# Altium footprint library Cuon Cam.PcbLib: 24 footprints (part 1 of 2)
Each footprint in its own frame and in the unit in brackets; x right, y up, seen from the top. Pads: shape width x height; smd on the part's side, far side on the other; paste and mask are expansions set on the pad; w line width, h text height; cw(c..) or ccw(c..) is an arc to the next point about the centre after c.
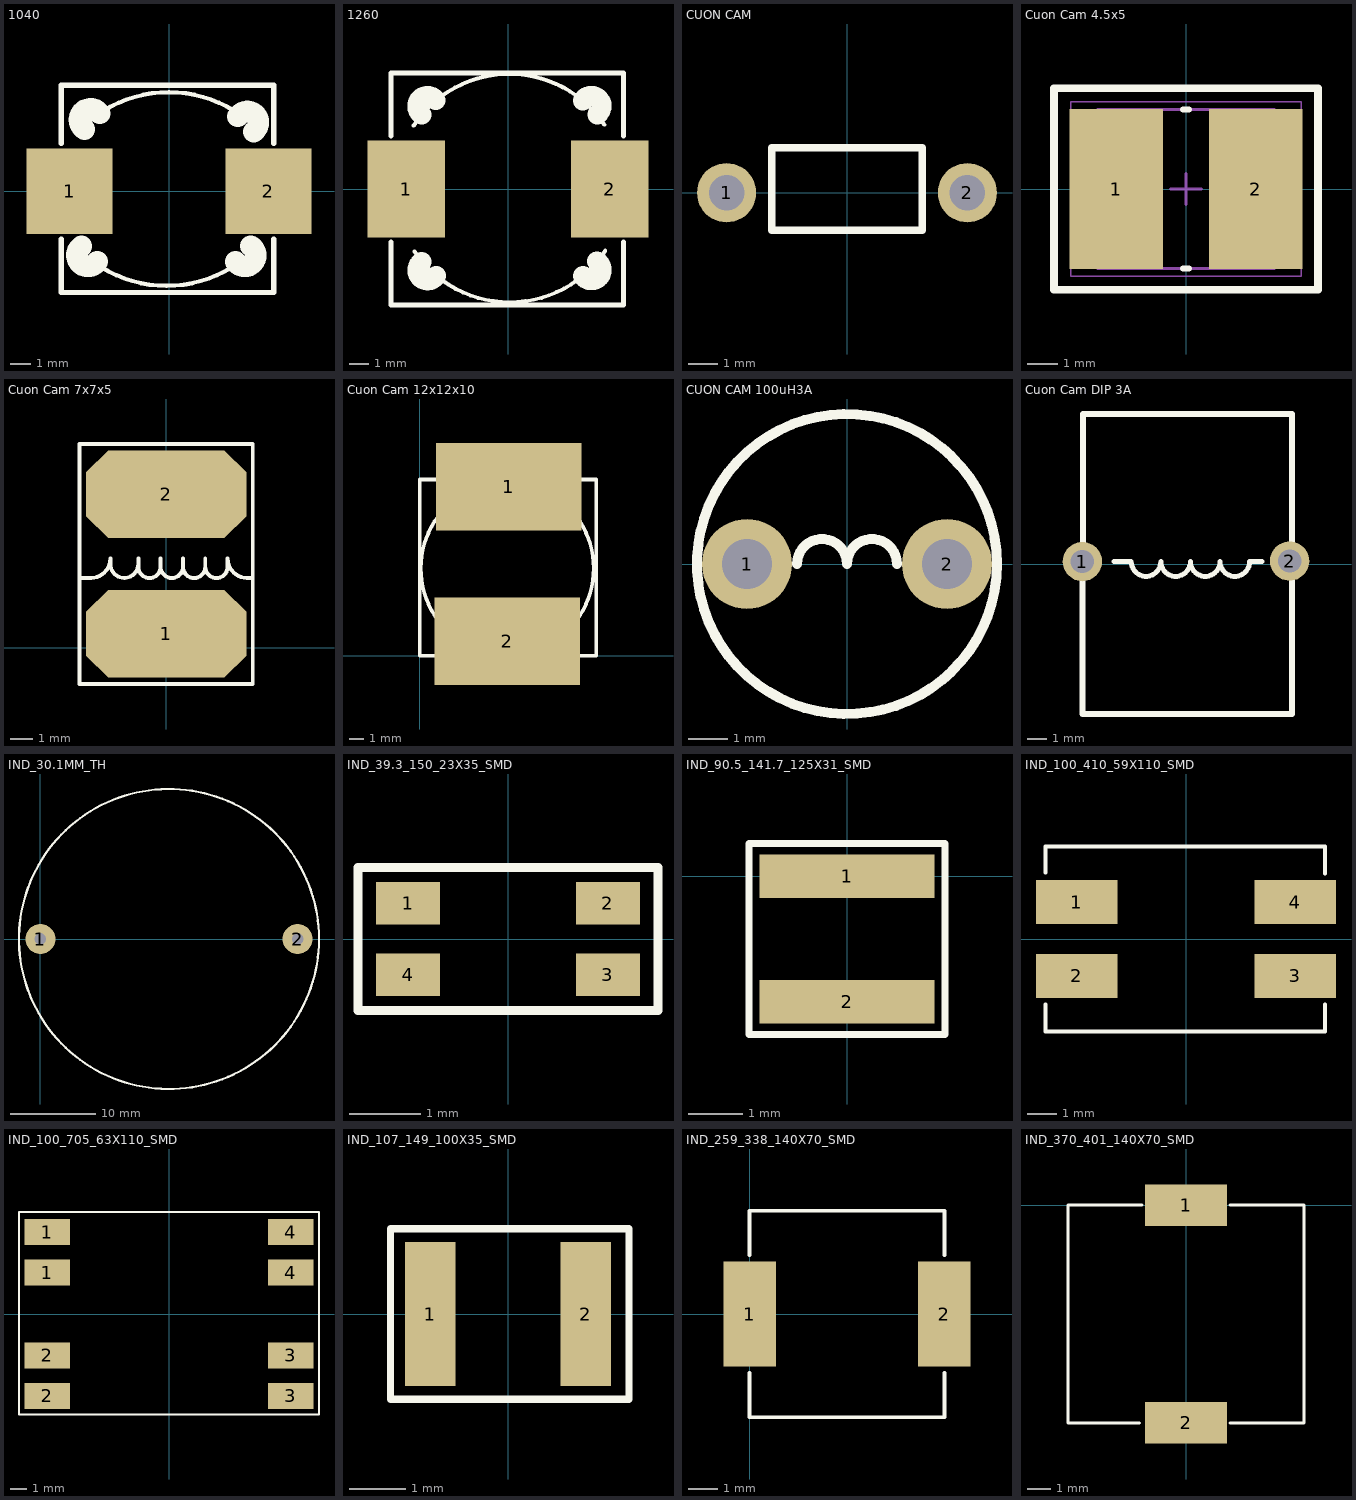
[diagram p0: the footprints below, top view; thin cyan lines are the x and y axes]

## 1040 [mm]
pads (2):
  rect 4.1x4.1 smd: 1(-4.75,0) 2(4.75,0)
Top Overlay:
  lines w0.203: -3.91,-3.144 ccw(c-0.118,1.375) -0.118,-4.525 ; -3.8,3.355 cw(c-0.008,-1.165) -0.008,4.735 ; -0.115,-4.525 ccw(c-0.115,1.375) 3.677,-3.144 ; -0.005,4.735 cw(c-0.005,-1.165) 3.787,3.355
  lines w0.254: -5.148,-2.281 -5.148,-4.845 5.012,-4.845 5.012,-2.281 ; -5.148,2.281 -5.148,5.061 5.012,5.061 5.012,2.281
  lines w1.016: -4.188,-2.631 ccw(c-3.878,-3.067) -3.427,-3.356 ; -4.039,2.96 cw(c-3.751,3.41) -3.315,3.719 ; 3.179,-3.377 ccw(c3.615,-3.067) 3.904,-2.617 ; 3.292,3.571 cw(c3.742,3.283) 4.052,2.847
3D body "CDRH104R.step": height 3.78, standoff -0.06, extent -5.228,-4.892 5.092,5.108

## 1260 [mm]
pads (2):
  rect 4x5 smd: 1(-5.25,0) 2(5.25,0)
Top Overlay:
  lines w0.203: -4.874,3.27 cw(c0.066,0.045) 0.076,5.945 cw(c0.068,0.045) 4.976,3.32 ; -4.824,-3.23 ccw(c0.083,0.045) 0.076,-5.855 ccw(c0.085,0.045) 5.026,-3.18
  lines w0.254: -6.039,-2.731 -6.039,-6 5.961,-6 5.961,-2.731 ; -6.039,2.731 -6.039,6 5.961,6 5.961,2.731
  lines w1.016: -4.467,-3.756 ccw(c-4.158,-4.192) -3.707,-4.48 ; -4.45,3.828 cw(c-4.161,4.278) -3.725,4.588 ; 3.859,4.57 cw(c4.309,4.282) 4.619,3.846 ; 3.877,-4.498 ccw(c4.313,-4.189) 4.601,-3.738
3D body "INDUTOR_12x12.step": height 7.46, standoff -0.1, extent -6.066,-6.021 5.934,5.979

## CUON CAM [mm] "Dang cam giong tro"
pads (2):
  round 2 hole 1.2: 1(-4.064,0) 2(4.064,0)
Top Overlay:
  lines w0.254: -2.54,-1.27 -2.54,1.524 2.54,1.524 2.54,-1.27 -2.54,-1.27

## Cuon Cam 4.5x5 [mm] "Cuon Cam 4.5x5"
height 2.29
pads (2):
  rect 3.05x5.25 smd: 1(-2.286,0) 2(2.286,0)
Top Overlay:
  lines w0.2: -0.1,-2.6 0.1,-2.6 ; -0.1,2.6 0.1,2.6
  lines w0.254: -4.318,-3.302 -4.318,3.302 4.318,3.302 4.318,-3.302 -4.318,-3.302
Mechanical 13:
  lines w0.1: -2.9,-2.6 2.9,-2.6 2.9,2.6 -2.9,2.6 -2.9,-2.6
Mechanical 15:
  lines w0.05: -3.775,-2.85 3.775,-2.85 3.775,2.85 -3.775,2.85 -3.775,-2.85
  lines w0.1: -0.5,0 0.5,0 ; 0,-0.5 0,0.5
3D body: height 2.29, standoff 0, extent -2.9,-2.6 2.9,2.6

## Cuon Cam 7x7x5 [mm] "Cuon Cam 7x7x5"
pads (2):
  oct 7.3x4 smd: 1(0,0.635) 2(0,6.985)
Top Overlay:
  lines w0.178: -3.937,3.175 -3.429,3.175 ccw(c-3.429,4.064) -2.54,4.064 -2.54,3.81 ccw(c-1.905,3.81) -1.905,3.175 ccw(c-1.905,3.81) -1.27,3.81 -1.27,4.064 -1.27,3.683 ccw(c-0.762,3.683) -0.762,3.175 ccw(c-0.762,3.683) -0.254,3.683 ; 3.937,3.175 3.683,3.175 cw(c3.683,4.064) 2.794,4.064 2.794,3.683 cw(c2.286,3.683) 2.286,3.175 cw(c2.286,3.683) 1.778,3.683 ; -0.254,3.683 ccw(c0.254,3.683) 0.254,3.175 ccw(c0.254,3.683) 0.762,3.683 ; -0.254,3.683 -0.254,4.064 -0.254,3.683 ; 0.762,3.683 ccw(c1.27,3.683) 1.27,3.175 ccw(c1.27,3.683) 1.778,3.683 ; 0.762,3.683 0.762,4.064 0.762,3.683 ; 1.778,3.683 1.778,4.064 1.778,3.683 ; -3.937,-1.651 -3.937,9.271 3.937,9.271 3.937,-1.651 -3.937,-1.651
3D body "cuon cam 75.step": height 5.02, standoff 0.01, extent -3.5,0.069 3.5,7.805

## Cuon Cam 12x12x10 [mm] "Cuon Cam 12x12x10"
pads (2):
  rect 10x6 smd: 1(6.1,11.6) 2(6,1)
Top Overlay:
  circle w0.254: c6,6 r5.941
  lines w0.254: 0,0 0,12.1 12.1,12.1 12.1,9.2 12.1,0 0,0
3D body "CUON CAM CDRH127 3A SMD.step": height 7.51, standoff 0.06, extent 0.096,-0.202 12.096,12.14

## CUON CAM 100uH3A [mil] "100uH3A"
pads (2):
  round 90 hole 50: 1(-100,0) 2(100,0)
Top Overlay:
  circle w10: c0,0 r150
  lines w10: -50,0 cw(c-25,0) 0,0 cw(c25,0) 50,0
3D body "cuon cam cam 1A.step": height 394.18, standoff -196.37, extent -171.27,-175.26 171.25,167.26

## Cuon Cam DIP 3A [mil]
pads (2):
  round 80 hole 47.24: 1(128,6) 2(548,7)
Top Overlay:
  lines w10: 192,6 227,6 ccw(c257,6) 287,6 ccw(c317,6) 347,6 ccw(c377,6) 407,6 ccw(c437,6) 467,6 492,6
  lines w12: 128,-303 128,17 129,18 129,305 553,305 553,-303 128,-303

## IND_30.1MM_TH [mm]
pads (2):
  round 3.5 hole 1.35: 1(0,0) 2(30,0)
Top Overlay:
  circle w0.254: c15,0 r17.5
3D body "01.STEP": height 14.28, standoff 0.72, extent 3.062,-12.136 27.418,12.39

## IND_39.3_150_23X35_SMD [mm] "Inductor"
height 2
pads (4):
  rect 0.9x0.6 smd: 1(-1.4,0.5) 2(1.4,0.5) 3(1.4,-0.5) 4(-1.4,-0.5)
Top Overlay:
  lines w0.127: -2.1,-1 -2.1,1 2.1,1 2.1,-1 -2.1,-1
3D body "User Library-srf3216.step": height 2.01, standoff 0.01, extent -1.6,-0.8 1.6,0.8

## IND_90.5_141.7_125X31_SMD [mm] "Inductor"
height 1.2
pads (2):
  rect 3.2x0.8 smd: 1(0,0) 2(0,-2.3)
Top Overlay:
  lines w0.127: -1.8,-2.9 -1.8,0.6 1.8,0.6 1.8,-2.9 -1.8,-2.9

## IND_100_410_59X110_SMD [mm] "CASE: SMD"
height 5.3
pads (4):
  rect 2.8x1.5 smd: 1(-3.75,1.27) 2(-3.75,-1.27) 3(3.75,-1.27) 4(3.75,1.27)
Top Overlay:
  lines w0.127: -4.826,-2.25 -4.826,-3.175 4.775,-3.175 4.775,-2.25 ; -4.826,2.286 -4.826,3.175 4.775,3.175 4.775,2.25
3D body "STEP-WE-SL2-rev1.stp": height 5, standoff 0, extent -4.6,-3.025 4.6,2.975

## IND_100_705_63X110_SMD [mm] "CASE: SMD"
height 7.8
pads (8):
  rect 2.8x1.6 smd: 1(-7.5,2.55) 1(-7.5,5.05) 2(-7.5,-5.05) 2(-7.5,-2.55) 3(7.5,-5.05) 3(7.5,-2.55) 4(7.5,2.55) 4(7.5,5.05)
Top Overlay:
  lines w0.127: -9.25,-6.2 -9.25,6.3 9.25,6.3 9.25,-6.2 -9.25,-6.2
3D body "744290152 (rev1).stp": height 9.32, standoff 0.02, extent -8.231,-6.153 8.369,6.347

## IND_107_149_100X35_SMD [mm] "Inductor"
height 1.5
pads (2):
  rect 0.89x2.54 smd: 1(-1.37,0) 2(1.37,0)
Top Overlay:
  lines w0.127: -2.07,-1.5 -2.07,1.5 2.13,1.5 2.13,-1.5 -2.07,-1.5
3D body "Coilcraft-PFL3215.step": height 1.51, standoff 0.01, extent -1.6,-1.143 1.6,1.143

## IND_259_338_140X70_SMD [mm] "Inductor"
height 2.8
pads (2):
  rect 1.78x3.56 smd: 1(0,0) 2(6.6,0)
Top Overlay:
  lines w0.127: 0,-2 0,-3.5 6.6,-3.5 6.6,-2 ; 0,2 0,3.5 6.6,3.5 6.6,2

## IND_370_401_140X70_SMD [mm] "SMD INDUCTOR"
height 3.785
pads (2):
  rect 3.56x1.78 smd: 1(0,0) 2(0,-9.4)
Top Overlay:
  lines w0.127: -2,-9.4 -5.1,-9.4 -5.1,0 -1.9,0 ; 1.9,-9.4 5.1,-9.4 5.1,0 1.9,0
3D body "Triad Magnetics-AX104R-100.step": height 4.01, standoff 0.01, extent -5.2,-9.9 5.1,0.5